# Altium footprint library CANDLE-LIB.PcbLib: 28 footprints (part 2 of 2)
Each footprint in its own frame and in the unit in brackets; x right, y up, seen from the top. Pads: shape width x height; smd on the part's side, far side on the other; paste and mask are expansions set on the pad; w line width, h text height; cw(c..) or ccw(c..) is an arc to the next point about the centre after c.
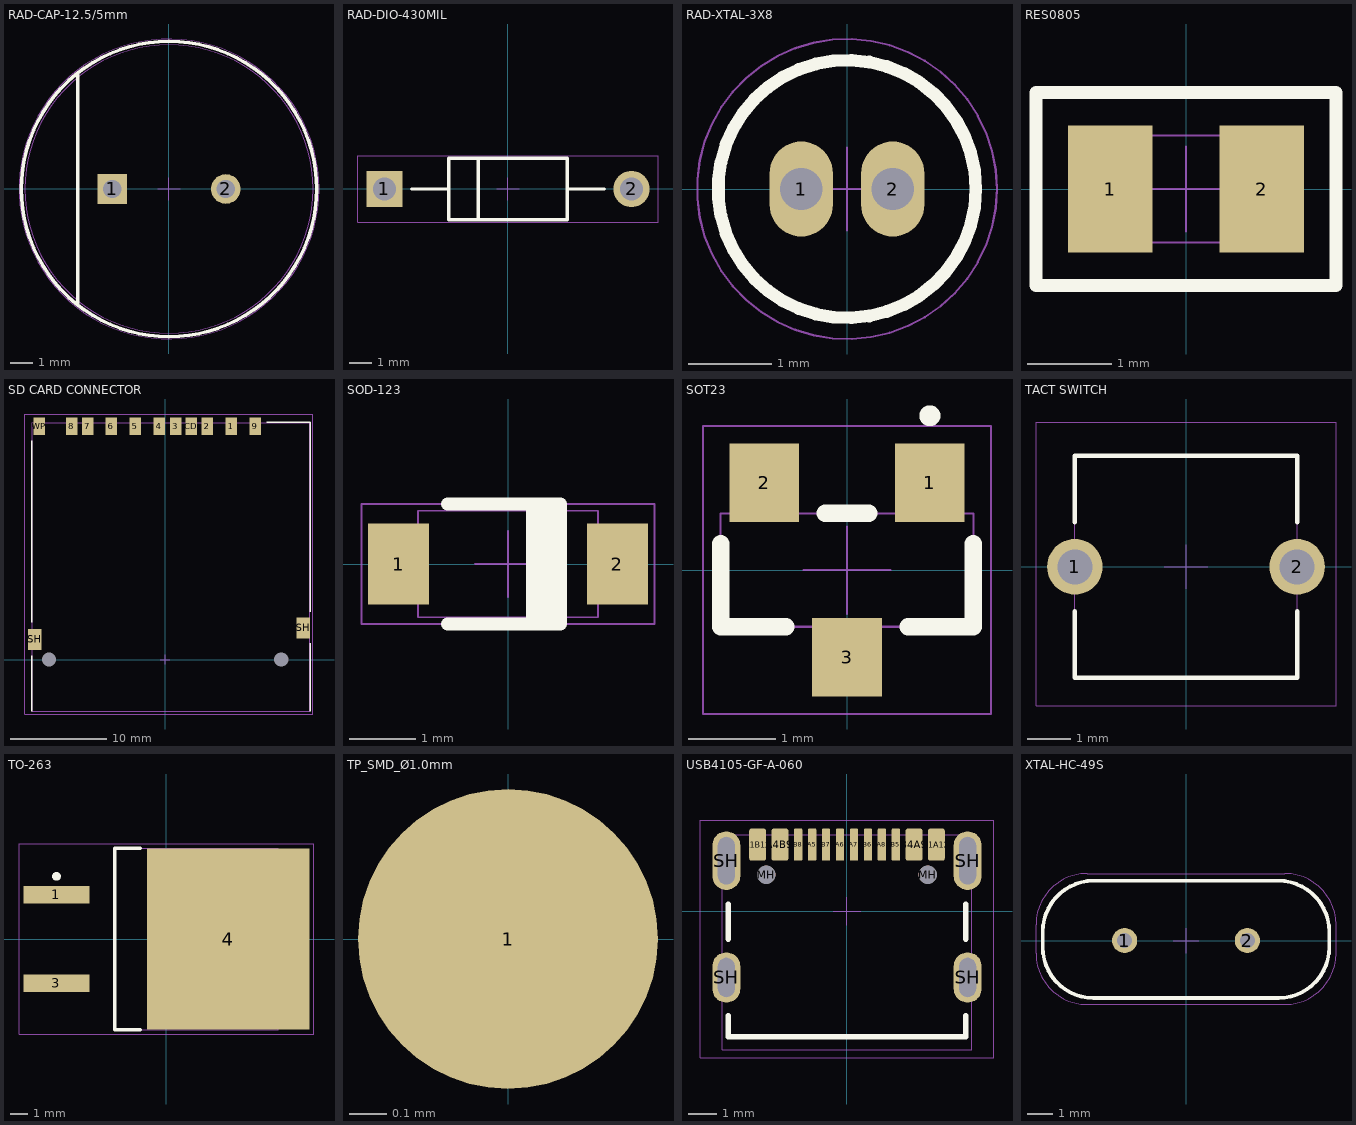
[diagram p1: the footprints below, top view; thin cyan lines are the x and y axes]

## RAD-CAP-12.5/5mm [mm] "Radial CAP - 12.5mm Dia x 5mm spacing"
pads (2):
  rect 1.3x1.3 hole 0.8 paste-1000 mask+0: 1(-2.5,0)
  round 1.3 hole 0.8 paste-1000 mask+0: 2(2.5,0)
Top Overlay:
  circle w0.152: c0,0 r6.5
  lines w0.152: -4.025,-5.093 -4.025,5.097
Top Courtyard:
  circle w0.025: c0,0 r6.604
Top Designator:
  text ".Designator" at -3.434,-0.345 h1.52
Top Assembly:
  lines w0.025: -0.5,0 0.5,0 ; 0,-0.5 0,0.5 ; -6.35,0 cw(c0,0) 6.35,0 cw(c0,0) -6.35,0
3D body "Cap_Panasonic_Electronic_Components_EEU-FC1V102_eec.STEP": height 0.25, standoff 0, extent -6.6,-6.6 6.6,6.6

## RAD-DIO-430MIL [mm]
pads (2):
  rect 1.6x1.6 hole 1: 1(-5.438,0)
  round 1.6 hole 1: 2(5.438,0)
Top Overlay:
  lines w0.152: -4.238,0 -2.6,0 ; -1.3,-1.29 -1.3,1.29 ; 2.6,0 4.238,0 ; -2.6,-1.36 2.6,-1.36 2.6,1.36 -2.6,1.36 -2.6,-1.36
Top Courtyard:
  lines w0.025: -6.604,-1.46 6.604,-1.46 6.604,1.46 -6.604,1.46 -6.604,-1.46
Top Designator:
  text ".Designator" at -2.252,-0.226 h1
Top Assembly:
  lines w0.025: -0.5,0 0.5,0 ; 0,-0.5 0,0.5 ; -2.6,-1.36 -2.6,1.36 2.6,1.36 2.6,-1.36 -2.6,-1.36
3D body "Diode_onsemi_BZX85C3V9TR_eec.STEP": height 0.25, standoff 0, extent -6.338,-1.46 6.338,1.46

## RAD-XTAL-3X8 [mil] "Radial Crystal - 3.1mm Dia x 1.1mm spacing"
pads (2):
  oval 30x45 hole 20: 1(-21.65,0) 2(21.65,0)
Top Overlay:
  circle w6: c0,0 r61.02
Top Courtyard:
  circle w1: c0,0 r71.02
Top Designator:
  text ".Designator" at -67.48,-6.77 h30
Top Assembly:
  lines w1: -19.69,0 19.68,0 ; 0,-19.68 0,19.68 ; -61.02,0 cw(c0,0) 61.02,0 cw(c0,0) -61.02,0
3D body "ECS-3X8X_ECS.step": height 323.62, standoff -112.01, extent -61.62,-60.88 61.62,60.88

## RES0805 [mm] "Pasivo 0805"
height 0.7
pads (2):
  rect 1x1.5 smd: 1(-0.9,0) 2(0.9,0)
Top Overlay:
  lines w0.152: -1.778,-1.143 -1.778,1.143 1.778,1.143 1.778,-1.143 -1.778,-1.143
Top Courtyard:
  lines w0.025: -1.778,-1.143 1.778,-1.143 1.778,1.143 -1.778,1.143 -1.778,-1.143
Top Designator:
  text ".Designator" at -1.714,-0.172 h0.76
Top Assembly:
  lines w0.025: -0.5,0 0.5,0 ; 0,-0.5 0,0.5 ; -1.016,-0.635 -1.016,0.635 1.016,0.635 1.016,-0.635 -1.016,-0.635
3D body "0805.STEP": height 0.39, standoff -0.02, extent -1,-0.625 1,0.625

## SD CARD CONNECTOR [mm] "693061010911"
pads (15):
  rect 1.2x1.8 smd: 1(6.88,24.3) 2(4.38,24.3) 3(1.08,24.3) 4(-0.63,24.3) 5(-3.13,24.3) 6(-5.63,24.3) 7(-8.05,24.3) 8(-9.75,24.3) 9(9.38,24.3) CD(2.73,24.3) WP(-13.1,24.3)
  rect 1.4x2.2 smd: SH(-13.6,2.1) SH(14.4,3.3)
  round 0 hole 1.5 paste+0 mask+0: ""(-12.1,0) ""(12.1,0)
Top Overlay:
  lines w0.152: -13.9,-5.4 -13.9,0.4 ; -13.9,3.9 -13.9,22.8 ; 10.6,24.7 15.1,24.7 15.1,23 15.1,5 ; 15.1,-5.4 15.1,1.7
Top Courtyard:
  lines w0.025: -14.624,-5.672 15.348,-5.672 15.348,25.57 -14.116,25.57 -14.624,25.57 -14.624,1.186 -14.624,-5.672
Top Designator:
  text ".Designator" at -3.434,-0.345 h1.52
Top Assembly:
  lines w0.025: -0.5,0 0.5,0 ; 0,-0.5 0,0.5 ; -13.86,-5.4 -13.86,24.65 15.04,24.65 15.04,-5.4 -13.86,-5.4
3D body "693061010911_Download_STP_693061010911_rev1.stp": height 2.9, standoff -0.5, extent -13.86,-5.4 15.04,24.65

## SOD-123 [mil] "SOD-123, 2-Leads, Body 2.7x1.6mm, Height 1.35mm"
height 53.15
pads (2):
  rect 35.98x47.99 smd: 1(-64.5,0) 2(64.5,0)
Top Overlay:
  rectangle: 10.75,-35.43 30.75,35.43
  lines w7.87: -35.67,-35.43 30.75,-35.43 30.75,35.43 -35.67,35.43
Top Courtyard:
  lines w1: -86.42,-35.43 86.42,-35.43 86.42,35.43 -86.42,35.43 -86.42,-35.43
Top Designator:
  text ".Designator" at -88.67,-8.9 h39.37
Top Assembly:
  lines w1: -19.69,0 19.68,0 ; 0,-19.68 0,19.68 ; -53.15,-31.5 -53.15,31.5 53.15,31.5 53.15,-31.5 -53.15,-31.5
3D body: height 53.15, standoff 0, extent -53.15,-31.5 53.15,31.5

## SOT23 [mm] "SOT23, 3-Leads, Body 1.3x2.9mm, Pitch 0.95mm"
height 1.1
pads (3):
  rect 0.8x0.9 smd paste-0.05: 1(0.95,1) 2(-0.95,1) 3(0,-1)
Top Overlay:
  circle w0.2: c0.95,1.77 r0.02
  lines w0.2: -1.45,0.304 -1.45,-0.65 -0.7,-0.65 ; -0.25,0.65 0.25,0.65 ; 0.7,-0.65 1.45,-0.65 1.45,0.304
Top Courtyard:
  lines w0.025: -1.651,-1.651 -1.651,1.651 1.651,1.651 1.651,-1.651 -1.651,-1.651
Top Designator:
  text ".Designator" at -1.714,-0.172 h0.76
Top Assembly:
  lines w0.025: -0.5,0 0.5,0 ; 0,-0.5 0,0.5 ; -1.45,-0.65 -1.45,0.65 1.45,0.65 1.45,-0.65 -1.45,-0.65
3D body: height 1.1, standoff 0, extent -1.45,-0.65 1.45,0.65

## TACT SWITCH [mm] "2 pin pushbutton/tactile switch"
pads (2):
  round 1.27 hole 0.8: 1(-2.54,0) 2(2.54,0)
Top Overlay:
  lines w0.102: -2.54,-1.016 -2.54,-2.54 2.54,-2.54 2.54,-1.016 ; -2.54,1.016 -2.54,2.54 2.54,2.54 2.54,1.016
Top Courtyard:
  lines w0.025: -3.429,-3.175 3.429,-3.175 3.429,3.302 -3.429,3.302 -3.429,-3.175
Top Designator:
  text ".Designator" at -1.714,-0.172 h0.76
Top Assembly:
  lines w0.025: -0.5,0 0.5,0 ; 0,-0.5 0,0.5 ; -2.54,-2.54 -2.54,2.54 2.54,2.54 2.54,-2.54 -2.54,-2.54
3D body "B3F-6000 - short leads.step": height 4.3, standoff -3, extent -3,-3 3,3.2

## TO-263 [mm] "D2-PAK, 4-Leads, Body 9.2x10.2mm, Pitch 2.54mm, Lead Span 15.4mm, IPC Medium Density"
height 4.6
pads (3):
  rect 3.8x1 smd: 1(-6.3,2.54) 3(-6.3,-2.54)
  rect 9.3x10.4 smd: 4(3.55,0)
Top Overlay:
  circle w0.25: c-6.3,3.59 r0.125
  lines w0.2: -1.5,-5.2 -2.95,-5.2 -2.95,5.2 -1.5,5.2
Top Courtyard:
  lines w0.025: -8.45,-5.45 8.45,-5.45 8.45,5.45 -8.45,5.45 -8.45,-5.45
Top Designator:
  text ".Designator" at -1.714,-0.172 h0.76
Top Assembly:
  lines w0.025: -0.5,0 0.5,0 ; 0,-0.5 0,0.5 ; -2.95,-5.2 -2.95,5.2 6.4,5.2 6.4,-5.2 -2.95,-5.2
3D body: height 4.6, standoff 0, extent -2.95,-5.2 6.4,5.2

## TP_SMD_Ø1.0mm [mm]
height 0.6
pads (1):
  round 0.8 smd paste-1: 1(0,0)

## USB4105-GF-A-060 [mm]
pads (18):
  rrect25% 0.6x1.15 smd mask+0.05: A1B12(-3.2,2.378) A4B9(-2.4,2.378) B1A12(3.2,2.378) B4A9(2.4,2.378)
  rrect25% 0.3x1.15 smd mask+0.05: A5(-1.25,2.378) A6(-0.25,2.378) A7(0.25,2.378) A8(1.25,2.378) B5(1.75,2.378) B6(0.75,2.378) B7(-0.75,2.378) B8(-1.75,2.378)
  round 0.65 hole 0.65 unplated mask+0.05: MH(-2.89,1.303) MH(2.89,1.303)
  oval 1x1.8 hole 0.6 slot 1.4 at 90 deg: SH(-4.32,-2.377) SH(4.32,-2.377)
  oval 1x2.1 hole 0.6 slot 1.7 at 90 deg: SH(-4.32,1.803) SH(4.32,1.803)
Top Overlay:
  lines w0.2: -4.25,-3.75 -4.25,-4.5 4.25,-4.5 4.25,-3.75 ; -4.25,-1 -4.25,0.25 ; 4.25,-1 4.25,0.25
Top Courtyard:
  lines w0.025: -5.25,-5.25 -5.25,-3 -5.25,3.25 5.25,3.25 5.25,-5.25 -5.25,-5.25
Top Designator:
  text ".Designator" at -1.714,-0.172 h0.76
Top Assembly:
  lines w0.025: -0.5,0 0.5,0 ; 0,-0.5 0,0.5 ; -4.47,-4.972 4.47,-4.972 4.47,2.728 -4.47,2.728 -4.47,-4.972
3D body "USB4105-GF-A-060.stp": height 3.27, standoff -0.61, extent -4.47,-4.972 4.47,2.728

## XTAL-HC-49S [mm] "Crystal HC-49S"
pads (2):
  round 1 hole 0.6: 1(-2.44,0) 2(2.44,0)
Top Overlay:
  lines w0.152: -5.699,-0.27 ccw(c-3.683,-0.27) -3.683,-2.286 3.683,-2.286 ccw(c3.683,-0.27) 5.699,-0.27 5.699,0.365 ccw(c3.683,0.365) 3.683,2.381 -3.683,2.381 ccw(c-3.683,0.365) -5.699,0.365 cw(c-5.699,0.365) -5.699,0.365 -5.699,-0.27
Top Courtyard:
  lines w0.025: -3.937,2.667 ccw(c-3.937,0.635) -5.969,0.635 -5.969,-0.508 ccw(c-3.937,-0.508) -3.937,-2.54 3.937,-2.54 ccw(c3.937,-0.508) 5.969,-0.508 5.969,0.635 ccw(c3.937,0.635) 3.937,2.667 -3.921,2.667
Top Designator:
  text ".Designator" at -1.714,-0.172 h0.76
Top Assembly:
  lines w0.025: -0.5,0 0.5,0 ; 0,-0.5 0,0.5 ; -5.699,-0.27 ccw(c-3.683,-0.27) -3.683,-2.286 3.683,-2.286 ccw(c3.683,-0.27) 5.699,-0.27 5.699,0.365 ccw(c3.683,0.365) 3.683,2.381 -3.683,2.381 ccw(c-3.683,0.365) -5.699,0.365 cw(c-5.699,0.365) -5.699,0.365 -5.699,-0.27
3D body "User Library-HP49US.step": height 3.5, standoff -4, extent -5.675,-2.286 5.675,2.364